# EAGLE library part 1554АП4 (library std-logic-1554series)
АЕЯР.431200.182-05 ТУ 1554АП4 - Два четырехканальных формирователя с тремя состояниями на выходе. Изготовитель: ОАО "ИНТЕГРАЛ", г. Минск, р. Беларусь. Технические условия (ТБМ): АЕЯР.431200.182-05 ТУ Технические условия (не ТБМ): АЕЯР.431200.093-05 ТУ
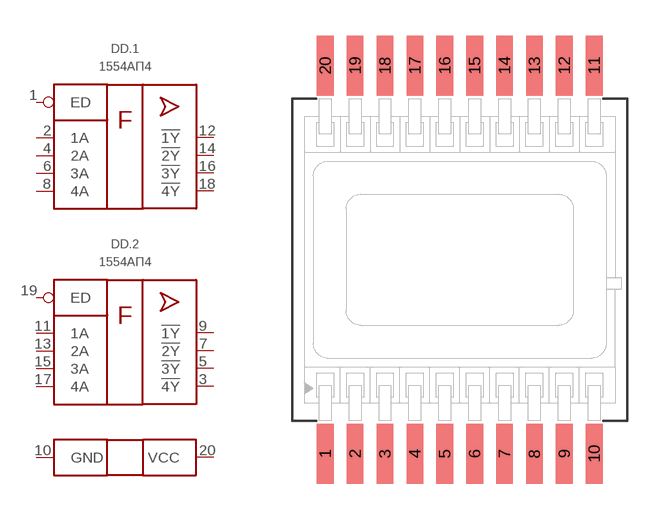
[diagram p22: symbol with the pads of 4153.20-6; footprint 4153.20-6]

Designator prefix DD; gates .1=1554АП4 .2=1554АП4 G$3=1554_PWR1

## 1554АП4ТБМ  [4153.20-6]
1  .1:ED  in
2  .1:1A  in
3  .2:!4Y  out
4  .1:2A  in
5  .2:!3Y  out
6  .1:3A  in
7  .2:!2Y  out
8  .1:4A  in
9  .2:!1Y  out
10  G$3:GND  pwr
11  .2:1A  in
12  .1:!1Y  out
13  .2:2A  in
14  .1:!2Y  out
15  .2:3A  in
16  .1:!3Y  out
17  .2:4A  in
18  .1:!4Y  out
19  .2:ED  in
20  G$3:VCC  pwr

## Footprint 4153.20-6 (pad centres in mm)
smd 0.7 x 2.5: 1 -5.625,-8.125; 2 -4.375,-8.125; 3 -3.125,-8.125; 4 -1.875,-8.125; 5 -0.625,-8.125; 6 0.625,-8.125; 7 1.875,-8.125; 8 3.125,-8.125; 9 4.375,-8.125; 10 5.625,-8.125; 11 5.625,8.125; 12 4.375,8.125; 13 3.125,8.125; 14 1.875,8.125; 15 0.625,8.125; 16 -0.625,8.125; 17 -1.875,8.125; 18 -3.125,8.125; 19 -4.375,8.125; 20 -5.625,8.125